# Altium footprint library Package_DIP.PcbLib: 281 footprints (part 2 of 18)
Each footprint in its own frame and in the unit in brackets; x right, y up, seen from the top. Pads: shape width x height; smd on the part's side, far side on the other; paste and mask are expansions set on the pad; w line width, h text height; cw(c..) or ccw(c..) is an arc to the next point about the centre after c.
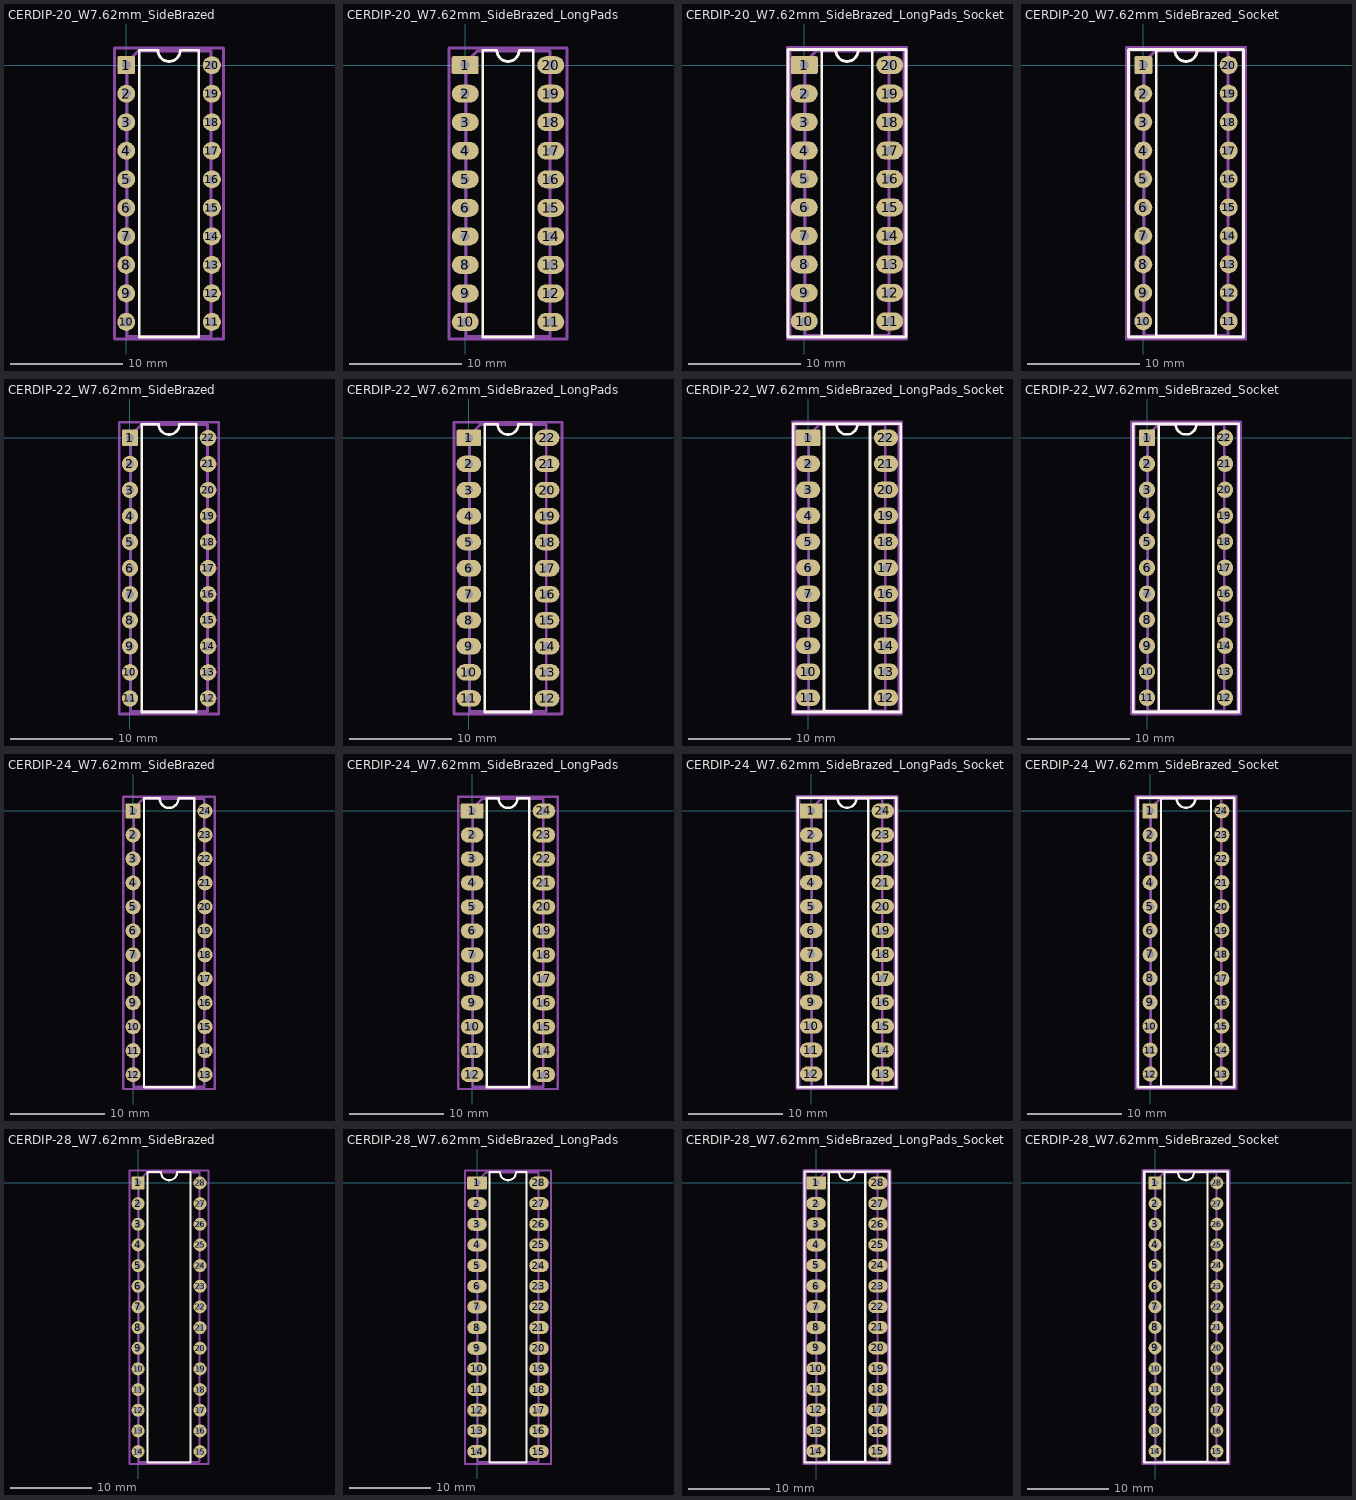
[diagram p1: the footprints below, top view; thin cyan lines are the x and y axes]

## CERDIP-20_W7.62mm_SideBrazed [mm]
pads (20):
  rrect16% 1.6x1.6 hole 0.8: 1(0,0)
  round 1.6 hole 0.8: 2(0,-2.54) 3(0,-5.08) 4(0,-7.62) 5(0,-10.16) 6(0,-12.7) 7(0,-15.24) 8(0,-17.78) 9(0,-20.32) 10(0,-22.86) 11(7.62,-22.86) 12(7.62,-20.32) 13(7.62,-17.78) 14(7.62,-15.24) 15(7.62,-12.7) 16(7.62,-10.16) 17(7.62,-7.62) 18(7.62,-5.08) 19(7.62,-2.54) 20(7.62,0)
F.SilkS:
  lines w0.254: 1.16,-24.19 6.46,-24.19 6.46,1.33 4.81,1.33 cw(c3.81,1.33) 2.81,1.33 1.16,1.33 1.16,-24.19
Top Assembly:
  lines w0.254: 0.065,-24.13 7.555,-24.13 7.555,1.27 1.065,1.27 0.065,0.27 0.065,-24.13
  text "'.Designator'" at 4.65,-15.477 h1
Top Courtyard:
  lines w0.254: -1.06,-24.38 8.67,-24.38 8.67,1.52 -1.06,1.52 -1.06,-24.38
Top Designator:
  text ".Designator" at -3.813,-11.938 h1.52

## CERDIP-20_W7.62mm_SideBrazed_LongPads [mm]
pads (20):
  rrect16% 2.4x1.6 hole 0.8: 1(0,0)
  rrect100% 2.4x1.6 hole 0.8: 2(0,-2.54) 3(0,-5.08) 4(0,-7.62) 5(0,-10.16) 6(0,-12.7) 7(0,-15.24) 8(0,-17.78) 9(0,-20.32) 10(0,-22.86) 11(7.62,-22.86) 12(7.62,-20.32) 13(7.62,-17.78) 14(7.62,-15.24) 15(7.62,-12.7) 16(7.62,-10.16) 17(7.62,-7.62) 18(7.62,-5.08) 19(7.62,-2.54) 20(7.62,0)
F.SilkS:
  lines w0.254: 1.56,-24.19 6.06,-24.19 6.06,1.33 4.81,1.33 cw(c3.81,1.33) 2.81,1.33 1.56,1.33 1.56,-24.19
Top Assembly:
  lines w0.254: 0.065,-24.13 7.555,-24.13 7.555,1.27 1.065,1.27 0.065,0.27 0.065,-24.13
  text "'.Designator'" at 4.65,-15.477 h1
Top Courtyard:
  lines w0.254: -1.45,-24.38 9.07,-24.38 9.07,1.52 -1.45,1.52 -1.45,-24.38
Top Designator:
  text ".Designator" at -3.808,-11.938 h1.52

## CERDIP-20_W7.62mm_SideBrazed_LongPads_Socket [mm]
pads (20):
  rrect16% 2.4x1.6 hole 0.8: 1(0,0)
  rrect100% 2.4x1.6 hole 0.8: 2(0,-2.54) 3(0,-5.08) 4(0,-7.62) 5(0,-10.16) 6(0,-12.7) 7(0,-15.24) 8(0,-17.78) 9(0,-20.32) 10(0,-22.86) 11(7.62,-22.86) 12(7.62,-20.32) 13(7.62,-17.78) 14(7.62,-15.24) 15(7.62,-12.7) 16(7.62,-10.16) 17(7.62,-7.62) 18(7.62,-5.08) 19(7.62,-2.54) 20(7.62,0)
F.SilkS:
  lines w0.254: -1.44,-24.25 9.06,-24.25 9.06,1.39 -1.44,1.39 -1.44,-24.25 ; 1.56,-24.19 6.06,-24.19 6.06,1.33 4.81,1.33 cw(c3.81,1.33) 2.81,1.33 1.56,1.33 1.56,-24.19
Top Assembly:
  lines w0.254: -1.27,-24.19 8.89,-24.19 8.89,1.33 -1.27,1.33 -1.27,-24.19 ; 0.065,-24.13 7.555,-24.13 7.555,1.27 1.065,1.27 0.065,0.27 0.065,-24.13
  text "'.Designator'" at 4.65,-15.477 h1
Top Courtyard:
  lines w0.254: -1.52,-24.44 9.14,-24.44 9.14,1.58 -1.52,1.58 -1.52,-24.44
Top Designator:
  text ".Designator" at -3.808,-11.938 h1.52

## CERDIP-20_W7.62mm_SideBrazed_Socket [mm]
pads (20):
  rrect16% 1.6x1.6 hole 0.8: 1(0,0)
  round 1.6 hole 0.8: 2(0,-2.54) 3(0,-5.08) 4(0,-7.62) 5(0,-10.16) 6(0,-12.7) 7(0,-15.24) 8(0,-17.78) 9(0,-20.32) 10(0,-22.86) 11(7.62,-22.86) 12(7.62,-20.32) 13(7.62,-17.78) 14(7.62,-15.24) 15(7.62,-12.7) 16(7.62,-10.16) 17(7.62,-7.62) 18(7.62,-5.08) 19(7.62,-2.54) 20(7.62,0)
F.SilkS:
  lines w0.254: -1.33,-24.25 8.95,-24.25 8.95,1.39 -1.33,1.39 -1.33,-24.25 ; 1.16,-24.19 6.46,-24.19 6.46,1.33 4.81,1.33 cw(c3.81,1.33) 2.81,1.33 1.16,1.33 1.16,-24.19
Top Assembly:
  lines w0.254: -1.27,-24.19 8.89,-24.19 8.89,1.33 -1.27,1.33 -1.27,-24.19 ; 0.065,-24.13 7.555,-24.13 7.555,1.27 1.065,1.27 0.065,0.27 0.065,-24.13
  text "'.Designator'" at 4.65,-15.477 h1
Top Courtyard:
  lines w0.254: -1.52,-24.44 9.14,-24.44 9.14,1.58 -1.52,1.58 -1.52,-24.44
Top Designator:
  text ".Designator" at -3.808,-11.938 h1.52

## CERDIP-22_W7.62mm_SideBrazed [mm]
pads (22):
  rrect16% 1.6x1.6 hole 0.8: 1(0,0)
  round 1.6 hole 0.8: 2(0,-2.54) 3(0,-5.08) 4(0,-7.62) 5(0,-10.16) 6(0,-12.7) 7(0,-15.24) 8(0,-17.78) 9(0,-20.32) 10(0,-22.86) 11(0,-25.4) 12(7.62,-25.4) 13(7.62,-22.86) 14(7.62,-20.32) 15(7.62,-17.78) 16(7.62,-15.24) 17(7.62,-12.7) 18(7.62,-10.16) 19(7.62,-7.62) 20(7.62,-5.08) 21(7.62,-2.54) 22(7.62,0)
F.SilkS:
  lines w0.254: 1.16,-26.73 6.46,-26.73 6.46,1.33 4.81,1.33 cw(c3.81,1.33) 2.81,1.33 1.16,1.33 1.16,-26.73
Top Assembly:
  lines w0.254: 0.065,-26.67 7.555,-26.67 7.555,1.27 1.065,1.27 0.065,0.27 0.065,-26.67
  text "'.Designator'" at 4.65,-16.747 h1
Top Courtyard:
  lines w0.254: -1.06,-26.92 8.67,-26.92 8.67,1.53 -1.06,1.53 -1.06,-26.92
Top Designator:
  text ".Designator" at -3.813,-13.203 h1.52

## CERDIP-22_W7.62mm_SideBrazed_LongPads [mm]
pads (22):
  rrect16% 2.4x1.6 hole 0.8: 1(0,0)
  rrect100% 2.4x1.6 hole 0.8: 2(0,-2.54) 3(0,-5.08) 4(0,-7.62) 5(0,-10.16) 6(0,-12.7) 7(0,-15.24) 8(0,-17.78) 9(0,-20.32) 10(0,-22.86) 11(0,-25.4) 12(7.62,-25.4) 13(7.62,-22.86) 14(7.62,-20.32) 15(7.62,-17.78) 16(7.62,-15.24) 17(7.62,-12.7) 18(7.62,-10.16) 19(7.62,-7.62) 20(7.62,-5.08) 21(7.62,-2.54) 22(7.62,0)
F.SilkS:
  lines w0.254: 1.56,-26.73 6.06,-26.73 6.06,1.33 4.81,1.33 cw(c3.81,1.33) 2.81,1.33 1.56,1.33 1.56,-26.73
Top Assembly:
  lines w0.254: 0.065,-26.67 7.555,-26.67 7.555,1.27 1.065,1.27 0.065,0.27 0.065,-26.67
  text "'.Designator'" at 4.65,-16.747 h1
Top Courtyard:
  lines w0.254: -1.45,-26.92 9.07,-26.92 9.07,1.53 -1.45,1.53 -1.45,-26.92
Top Designator:
  text ".Designator" at -3.808,-13.203 h1.52

## CERDIP-22_W7.62mm_SideBrazed_LongPads_Socket [mm]
pads (22):
  rrect16% 2.4x1.6 hole 0.8: 1(0,0)
  rrect100% 2.4x1.6 hole 0.8: 2(0,-2.54) 3(0,-5.08) 4(0,-7.62) 5(0,-10.16) 6(0,-12.7) 7(0,-15.24) 8(0,-17.78) 9(0,-20.32) 10(0,-22.86) 11(0,-25.4) 12(7.62,-25.4) 13(7.62,-22.86) 14(7.62,-20.32) 15(7.62,-17.78) 16(7.62,-15.24) 17(7.62,-12.7) 18(7.62,-10.16) 19(7.62,-7.62) 20(7.62,-5.08) 21(7.62,-2.54) 22(7.62,0)
F.SilkS:
  lines w0.254: -1.44,-26.79 9.06,-26.79 9.06,1.39 -1.44,1.39 -1.44,-26.79 ; 1.56,-26.73 6.06,-26.73 6.06,1.33 4.81,1.33 cw(c3.81,1.33) 2.81,1.33 1.56,1.33 1.56,-26.73
Top Assembly:
  lines w0.254: -1.27,-26.73 8.89,-26.73 8.89,1.33 -1.27,1.33 -1.27,-26.73 ; 0.065,-26.67 7.555,-26.67 7.555,1.27 1.065,1.27 0.065,0.27 0.065,-26.67
  text "'.Designator'" at 4.65,-16.747 h1
Top Courtyard:
  lines w0.254: -1.52,-26.99 9.14,-26.99 9.14,1.59 -1.52,1.59 -1.52,-26.99
Top Designator:
  text ".Designator" at -3.808,-13.208 h1.52

## CERDIP-22_W7.62mm_SideBrazed_Socket [mm]
pads (22):
  rrect16% 1.6x1.6 hole 0.8: 1(0,0)
  round 1.6 hole 0.8: 2(0,-2.54) 3(0,-5.08) 4(0,-7.62) 5(0,-10.16) 6(0,-12.7) 7(0,-15.24) 8(0,-17.78) 9(0,-20.32) 10(0,-22.86) 11(0,-25.4) 12(7.62,-25.4) 13(7.62,-22.86) 14(7.62,-20.32) 15(7.62,-17.78) 16(7.62,-15.24) 17(7.62,-12.7) 18(7.62,-10.16) 19(7.62,-7.62) 20(7.62,-5.08) 21(7.62,-2.54) 22(7.62,0)
F.SilkS:
  lines w0.254: -1.33,-26.79 8.95,-26.79 8.95,1.39 -1.33,1.39 -1.33,-26.79 ; 1.16,-26.73 6.46,-26.73 6.46,1.33 4.81,1.33 cw(c3.81,1.33) 2.81,1.33 1.16,1.33 1.16,-26.73
Top Assembly:
  lines w0.254: -1.27,-26.73 8.89,-26.73 8.89,1.33 -1.27,1.33 -1.27,-26.73 ; 0.065,-26.67 7.555,-26.67 7.555,1.27 1.065,1.27 0.065,0.27 0.065,-26.67
  text "'.Designator'" at 4.65,-16.747 h1
Top Courtyard:
  lines w0.254: -1.52,-26.99 9.14,-26.99 9.14,1.59 -1.52,1.59 -1.52,-26.99
Top Designator:
  text ".Designator" at -3.808,-13.208 h1.52

## CERDIP-24_W7.62mm_SideBrazed [mm]
pads (24):
  rrect16% 1.6x1.6 hole 0.8: 1(0,0)
  round 1.6 hole 0.8: 2(0,-2.54) 3(0,-5.08) 4(0,-7.62) 5(0,-10.16) 6(0,-12.7) 7(0,-15.24) 8(0,-17.78) 9(0,-20.32) 10(0,-22.86) 11(0,-25.4) 12(0,-27.94) 13(7.62,-27.94) 14(7.62,-25.4) 15(7.62,-22.86) 16(7.62,-20.32) 17(7.62,-17.78) 18(7.62,-15.24) 19(7.62,-12.7) 20(7.62,-10.16) 21(7.62,-7.62) 22(7.62,-5.08) 23(7.62,-2.54) 24(7.62,0)
F.SilkS:
  lines w0.254: 1.16,-29.27 6.46,-29.27 6.46,1.33 4.81,1.33 cw(c3.81,1.33) 2.81,1.33 1.16,1.33 1.16,-29.27
Top Assembly:
  lines w0.254: 0.065,-29.21 7.555,-29.21 7.555,1.27 1.065,1.27 0.065,0.27 0.065,-29.21
  text "'.Designator'" at 4.65,-18.017 h1
Top Courtyard:
  lines w0.254: -1.06,-29.46 8.67,-29.46 8.67,1.52 -1.06,1.52 -1.06,-29.46
Top Designator:
  text ".Designator" at -3.813,-14.478 h1.52

## CERDIP-24_W7.62mm_SideBrazed_LongPads [mm]
pads (24):
  rrect16% 2.4x1.6 hole 0.8: 1(0,0)
  rrect100% 2.4x1.6 hole 0.8: 2(0,-2.54) 3(0,-5.08) 4(0,-7.62) 5(0,-10.16) 6(0,-12.7) 7(0,-15.24) 8(0,-17.78) 9(0,-20.32) 10(0,-22.86) 11(0,-25.4) 12(0,-27.94) 13(7.62,-27.94) 14(7.62,-25.4) 15(7.62,-22.86) 16(7.62,-20.32) 17(7.62,-17.78) 18(7.62,-15.24) 19(7.62,-12.7) 20(7.62,-10.16) 21(7.62,-7.62) 22(7.62,-5.08) 23(7.62,-2.54) 24(7.62,0)
F.SilkS:
  lines w0.254: 1.56,-29.27 6.06,-29.27 6.06,1.33 4.81,1.33 cw(c3.81,1.33) 2.81,1.33 1.56,1.33 1.56,-29.27
Top Assembly:
  lines w0.254: 0.065,-29.21 7.555,-29.21 7.555,1.27 1.065,1.27 0.065,0.27 0.065,-29.21
  text "'.Designator'" at 4.65,-18.017 h1
Top Courtyard:
  lines w0.254: -1.45,-29.46 9.07,-29.46 9.07,1.52 -1.45,1.52 -1.45,-29.46
Top Designator:
  text ".Designator" at -3.808,-14.478 h1.52

## CERDIP-24_W7.62mm_SideBrazed_LongPads_Socket [mm]
pads (24):
  rrect16% 2.4x1.6 hole 0.8: 1(0,0)
  rrect100% 2.4x1.6 hole 0.8: 2(0,-2.54) 3(0,-5.08) 4(0,-7.62) 5(0,-10.16) 6(0,-12.7) 7(0,-15.24) 8(0,-17.78) 9(0,-20.32) 10(0,-22.86) 11(0,-25.4) 12(0,-27.94) 13(7.62,-27.94) 14(7.62,-25.4) 15(7.62,-22.86) 16(7.62,-20.32) 17(7.62,-17.78) 18(7.62,-15.24) 19(7.62,-12.7) 20(7.62,-10.16) 21(7.62,-7.62) 22(7.62,-5.08) 23(7.62,-2.54) 24(7.62,0)
F.SilkS:
  lines w0.254: -1.44,-29.33 9.06,-29.33 9.06,1.39 -1.44,1.39 -1.44,-29.33 ; 1.56,-29.27 6.06,-29.27 6.06,1.33 4.81,1.33 cw(c3.81,1.33) 2.81,1.33 1.56,1.33 1.56,-29.27
Top Assembly:
  lines w0.254: -1.27,-29.27 8.89,-29.27 8.89,1.33 -1.27,1.33 -1.27,-29.27 ; 0.065,-29.21 7.555,-29.21 7.555,1.27 1.065,1.27 0.065,0.27 0.065,-29.21
  text "'.Designator'" at 4.65,-18.017 h1
Top Courtyard:
  lines w0.254: -1.52,-29.53 9.14,-29.53 9.14,1.58 -1.52,1.58 -1.52,-29.53
Top Designator:
  text ".Designator" at -3.808,-14.483 h1.52

## CERDIP-24_W7.62mm_SideBrazed_Socket [mm]
pads (24):
  rrect16% 1.6x1.6 hole 0.8: 1(0,0)
  round 1.6 hole 0.8: 2(0,-2.54) 3(0,-5.08) 4(0,-7.62) 5(0,-10.16) 6(0,-12.7) 7(0,-15.24) 8(0,-17.78) 9(0,-20.32) 10(0,-22.86) 11(0,-25.4) 12(0,-27.94) 13(7.62,-27.94) 14(7.62,-25.4) 15(7.62,-22.86) 16(7.62,-20.32) 17(7.62,-17.78) 18(7.62,-15.24) 19(7.62,-12.7) 20(7.62,-10.16) 21(7.62,-7.62) 22(7.62,-5.08) 23(7.62,-2.54) 24(7.62,0)
F.SilkS:
  lines w0.254: -1.33,-29.33 8.95,-29.33 8.95,1.39 -1.33,1.39 -1.33,-29.33 ; 1.16,-29.27 6.46,-29.27 6.46,1.33 4.81,1.33 cw(c3.81,1.33) 2.81,1.33 1.16,1.33 1.16,-29.27
Top Assembly:
  lines w0.254: -1.27,-29.27 8.89,-29.27 8.89,1.33 -1.27,1.33 -1.27,-29.27 ; 0.065,-29.21 7.555,-29.21 7.555,1.27 1.065,1.27 0.065,0.27 0.065,-29.21
  text "'.Designator'" at 4.65,-18.017 h1
Top Courtyard:
  lines w0.254: -1.52,-29.53 9.14,-29.53 9.14,1.58 -1.52,1.58 -1.52,-29.53
Top Designator:
  text ".Designator" at -3.808,-14.483 h1.52

## CERDIP-28_W7.62mm_SideBrazed [mm]
pads (28):
  rrect16% 1.6x1.6 hole 0.8: 1(0,0)
  round 1.6 hole 0.8: 2(0,-2.54) 3(0,-5.08) 4(0,-7.62) 5(0,-10.16) 6(0,-12.7) 7(0,-15.24) 8(0,-17.78) 9(0,-20.32) 10(0,-22.86) 11(0,-25.4) 12(0,-27.94) 13(0,-30.48) 14(0,-33.02) 15(7.62,-33.02) 16(7.62,-30.48) 17(7.62,-27.94) 18(7.62,-25.4) 19(7.62,-22.86) 20(7.62,-20.32) 21(7.62,-17.78) 22(7.62,-15.24) 23(7.62,-12.7) 24(7.62,-10.16) 25(7.62,-7.62) 26(7.62,-5.08) 27(7.62,-2.54) 28(7.62,0)
F.SilkS:
  lines w0.254: 1.16,-34.35 6.46,-34.35 6.46,1.33 4.81,1.33 cw(c3.81,1.33) 2.81,1.33 1.16,1.33 1.16,-34.35
Top Assembly:
  lines w0.254: 0.065,-34.29 7.555,-34.29 7.555,1.27 1.065,1.27 0.065,0.27 0.065,-34.29
  text "'.Designator'" at 4.65,-20.557 h1
Top Courtyard:
  lines w0.254: -1.06,-34.55 8.67,-34.55 8.67,1.52 -1.06,1.52 -1.06,-34.55
Top Designator:
  text ".Designator" at -3.813,-17.023 h1.52

## CERDIP-28_W7.62mm_SideBrazed_LongPads [mm]
pads (28):
  rrect16% 2.4x1.6 hole 0.8: 1(0,0)
  rrect100% 2.4x1.6 hole 0.8: 2(0,-2.54) 3(0,-5.08) 4(0,-7.62) 5(0,-10.16) 6(0,-12.7) 7(0,-15.24) 8(0,-17.78) 9(0,-20.32) 10(0,-22.86) 11(0,-25.4) 12(0,-27.94) 13(0,-30.48) 14(0,-33.02) 15(7.62,-33.02) 16(7.62,-30.48) 17(7.62,-27.94) 18(7.62,-25.4) 19(7.62,-22.86) 20(7.62,-20.32) 21(7.62,-17.78) 22(7.62,-15.24) 23(7.62,-12.7) 24(7.62,-10.16) 25(7.62,-7.62) 26(7.62,-5.08) 27(7.62,-2.54) 28(7.62,0)
F.SilkS:
  lines w0.254: 1.56,-34.35 6.06,-34.35 6.06,1.33 4.81,1.33 cw(c3.81,1.33) 2.81,1.33 1.56,1.33 1.56,-34.35
Top Assembly:
  lines w0.254: 0.065,-34.29 7.555,-34.29 7.555,1.27 1.065,1.27 0.065,0.27 0.065,-34.29
  text "'.Designator'" at 4.65,-20.557 h1
Top Courtyard:
  lines w0.254: -1.45,-34.55 9.07,-34.55 9.07,1.52 -1.45,1.52 -1.45,-34.55
Top Designator:
  text ".Designator" at -3.808,-17.023 h1.52

## CERDIP-28_W7.62mm_SideBrazed_LongPads_Socket [mm]
pads (28):
  rrect16% 2.4x1.6 hole 0.8: 1(0,0)
  rrect100% 2.4x1.6 hole 0.8: 2(0,-2.54) 3(0,-5.08) 4(0,-7.62) 5(0,-10.16) 6(0,-12.7) 7(0,-15.24) 8(0,-17.78) 9(0,-20.32) 10(0,-22.86) 11(0,-25.4) 12(0,-27.94) 13(0,-30.48) 14(0,-33.02) 15(7.62,-33.02) 16(7.62,-30.48) 17(7.62,-27.94) 18(7.62,-25.4) 19(7.62,-22.86) 20(7.62,-20.32) 21(7.62,-17.78) 22(7.62,-15.24) 23(7.62,-12.7) 24(7.62,-10.16) 25(7.62,-7.62) 26(7.62,-5.08) 27(7.62,-2.54) 28(7.62,0)
F.SilkS:
  lines w0.254: -1.44,-34.41 9.06,-34.41 9.06,1.39 -1.44,1.39 -1.44,-34.41 ; 1.56,-34.35 6.06,-34.35 6.06,1.33 4.81,1.33 cw(c3.81,1.33) 2.81,1.33 1.56,1.33 1.56,-34.35
Top Assembly:
  lines w0.254: -1.27,-34.35 8.89,-34.35 8.89,1.33 -1.27,1.33 -1.27,-34.35 ; 0.065,-34.29 7.555,-34.29 7.555,1.27 1.065,1.27 0.065,0.27 0.065,-34.29
  text "'.Designator'" at 4.65,-20.557 h1
Top Courtyard:
  lines w0.254: -1.52,-34.6 9.14,-34.6 9.14,1.58 -1.52,1.58 -1.52,-34.6
Top Designator:
  text ".Designator" at -3.808,-17.018 h1.52

## CERDIP-28_W7.62mm_SideBrazed_Socket [mm]
pads (28):
  rrect16% 1.6x1.6 hole 0.8: 1(0,0)
  round 1.6 hole 0.8: 2(0,-2.54) 3(0,-5.08) 4(0,-7.62) 5(0,-10.16) 6(0,-12.7) 7(0,-15.24) 8(0,-17.78) 9(0,-20.32) 10(0,-22.86) 11(0,-25.4) 12(0,-27.94) 13(0,-30.48) 14(0,-33.02) 15(7.62,-33.02) 16(7.62,-30.48) 17(7.62,-27.94) 18(7.62,-25.4) 19(7.62,-22.86) 20(7.62,-20.32) 21(7.62,-17.78) 22(7.62,-15.24) 23(7.62,-12.7) 24(7.62,-10.16) 25(7.62,-7.62) 26(7.62,-5.08) 27(7.62,-2.54) 28(7.62,0)
F.SilkS:
  lines w0.254: -1.33,-34.41 8.95,-34.41 8.95,1.39 -1.33,1.39 -1.33,-34.41 ; 1.16,-34.35 6.46,-34.35 6.46,1.33 4.81,1.33 cw(c3.81,1.33) 2.81,1.33 1.16,1.33 1.16,-34.35
Top Assembly:
  lines w0.254: -1.27,-34.35 8.89,-34.35 8.89,1.33 -1.27,1.33 -1.27,-34.35 ; 0.065,-34.29 7.555,-34.29 7.555,1.27 1.065,1.27 0.065,0.27 0.065,-34.29
  text "'.Designator'" at 4.65,-20.557 h1
Top Courtyard:
  lines w0.254: -1.52,-34.6 9.14,-34.6 9.14,1.58 -1.52,1.58 -1.52,-34.6
Top Designator:
  text ".Designator" at -3.808,-17.018 h1.52